# Altium footprint library AMDC.PcbLib: 35 footprints (part 3 of 3)
Each footprint in its own frame and in the unit in brackets; x right, y up, seen from the top. Pads: shape width x height; smd on the part's side, far side on the other; paste and mask are expansions set on the pad; w line width, h text height; cw(c..) or ccw(c..) is an arc to the next point about the centre after c.
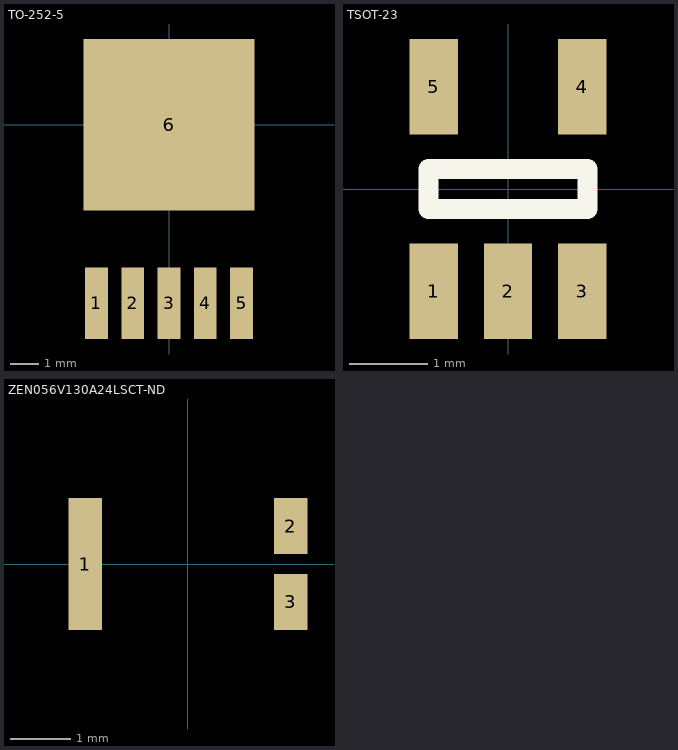
[diagram p2: the footprints below, top view; thin cyan lines are the x and y axes]

## TO-252-5 [mm] "5-pin TO-252-5"
height 2.3
pads (6):
  rect 0.8x2.5 smd: 1(-2.54,-6.25) 2(-1.27,-6.25) 3(0,-6.25) 4(1.27,-6.25) 5(2.54,-6.25)
  rect 6x6 smd: 6(0,0)

## TSOT-23 [mm] "5-Lead Plastic TSOT-23"
height 1
pads (5):
  rect 0.62x1.22 smd: 1(-0.95,-1.31) 2(0,-1.31) 3(0.95,-1.31) 4(0.95,1.31) 5(-0.95,1.31)
Top Overlay:
  lines w0.254: -1.016,-0.254 1.016,-0.254 1.016,0.254 -1.016,0.254 -1.016,-0.254

## ZEN056V130A24LSCT-ND [mm]
pads (3):
  rect 0.56x2.21 smd paste+0 mask+0: 1(-1.72,0)
  rect 0.56x0.94 smd paste+0 mask+0: 2(1.72,0.635) 3(1.72,-0.635)